# Altium schematic symbol library passive.SchLib: 6 symbols
Pins are listed as number, name and electrical type; pins without a type are passive.

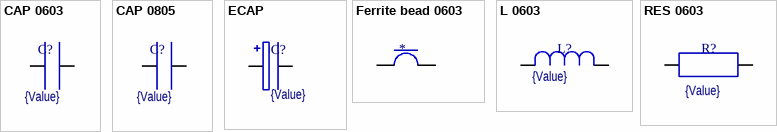
[diagram p0: symbols CAP 0603 to RES 0603]

## CAP 0603
designator C?, comment {Value}
Value: {Value}
footprint CAP 0603 (Chip Capacitor, 2-Leads, Body 1.60x0.80mm, IPC Medium Density)
pins: 1, 2

## CAP 0805
designator C?, comment {Value}
Value: {Value}
footprint CAP 0805 (Chip Capacitor, 2-Leads, Body 2.05x1.25mm, IPC Medium Density)
pins: 1, 2

## ECAP
designator C?, comment {Value}
Value: {Value}
footprint ECAP G (Aluminum Electrolytic Capacitor, Body 10.30x10.30x10.00mm, IPC Medium Density)
pins: 1, 2

## Ferrite bead 0603
designator *  (value not drawn)
footprint Ferrite bead 0603 (Chip Inductor, 2-Leads, Body 1.60x0.80mm, IPC Medium Density)
pins: 1, 2

## L 0603
designator L?, comment {Value}
Value: {Value}
footprint L 0603 (Chip Inductor, 2-Leads, Body 1.60x0.80mm, IPC Medium Density)
pins: 1, 2

## RES 0603
designator R?, comment {Value}
Value: {Value}
footprint RES 0603 (Chip Resistor, 2-Leads, Body 1.60x0.85mm, IPC Medium Density)
pins: 1, 2